# EAGLE library part AYF530465T (library AYF530465T)
FFC & FPC Connectors .5A 50VAC/DC 4 pins .5mm pitch Source: Datasheet <https://www.mouser.com/datasheet/2/315/con_eng_y5bw-1075794.pdf>
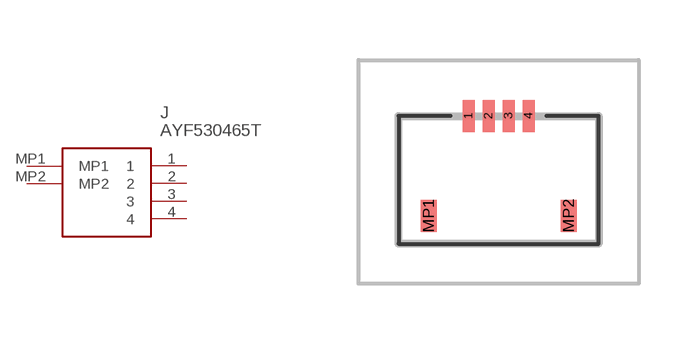
[diagram p0: symbol with the pads of AYF530465T; footprint AYF530465T]

Designator prefix J

## AYF530465T (Description: FFC & FPC Connectors .5A 50VAC/DC 4 pins .5mm pitch; Height: 2.06mm; Manufacturer_Name: Panasonic; Manufacturer_Part_Number: AYF530465T; Mouser_Part_Number: 769-AYF530465T; Mouser_Price-Stock: https://www.mouser.co.uk/ProductDetail/Panasonic-Industrial-Devices/AYF530465T?qs=CoW5K%2FMp%2F737D1HkUvwPgw%3D%3D)  [AYF530465T]
1  1
2  2
3  3
4  4
MP1  MP1
MP2  MP2

## Footprint AYF530465T (pad centres in mm)
AYF530465T-4
smd 0.3 x 0.8: 1 -0.75,1.6; 2 -0.25,1.6; 3 0.25,1.6; 4 0.75,1.6
smd 0.4 x 0.8: MP1 -1.75,-0.9; MP2 1.75,-0.9